# Altium integrated library Capacitors - Ceramic - 01005.IntLib: 571 symbols (part 2 of 13)
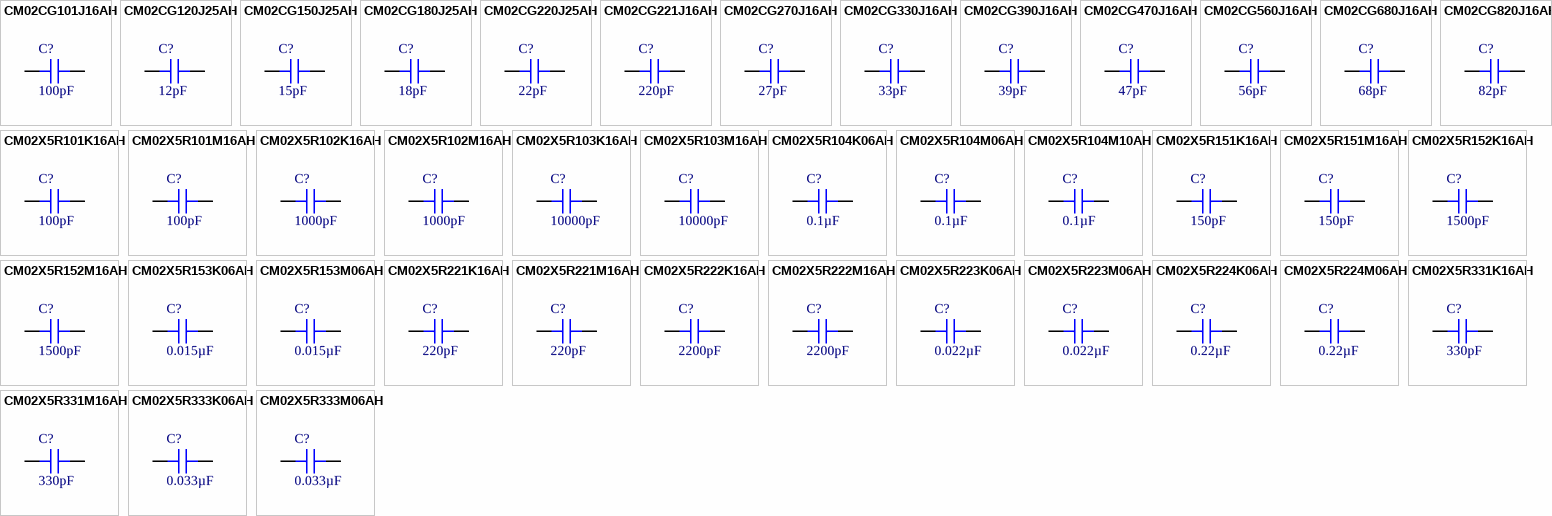
[diagram p15: symbols CM02CG101J16AH to CM02X5R333M06AH]

## CM02CG390J16AH
designator C?, comment 39pF
CAP CER 39PF 16V C0G/NP0 01005; Part Number: CM02CG390J16AH; Manufacturer: Kyocera International Inc. Electronic Components; Temperature Coefficient: C0G, NP0; Tolerance: ±5%; Value: 39pF; Applications: General Purpose; Capacitance: 39pF; ComponentLink1Description: Datasheet; ComponentLink1URL: https://global.kyocera.com/prdct/electro/product/pdf/cm_e.pdf; ComponentLink2Description: DigiKey Link; ComponentLink2URL: http://digikey.com/product-detail/en/kyocera-international-inc-electronic-components/CM02CG390J16AH/1253-CM02CG390J16AHCT-ND/11564097; Device Package: 01005 (0402 Metric); LastUpdated: 9/2/2020 1:27:42 AM; Lifecycle Status: Active; Minimum Order: 1; Mounting Type: Surface Mount, MLCC; Operating Temperature: -55°C ~ 125°C; Package / Case: 01005 (0402 Metric); Packaging: Unknown; Part Status: Active; Price: 0.10; Series: CM; Supplier 1: DigiKey; Supplier Part Number 1: 1253-CM02CG390J16AHCT-ND; Voltage - Rated: 16V
footprint CAP 01005_0402
pins: 1, 2

## CM02CG470J16AH
designator C?, comment 47pF
CAP CER 47PF 16V C0G 01005; Part Number: CM02CG470J16AH; Manufacturer: Kyocera International Inc. Electronic Components; Temperature Coefficient: C0G, NP0; Tolerance: ±5%; Value: 47pF; Applications: General Purpose; Capacitance: 47pF; ComponentLink1Description: Datasheet; ComponentLink1URL: https://global.kyocera.com/prdct/electro/product/pdf/cm_e.pdf; ComponentLink2Description: DigiKey Link; ComponentLink2URL: http://digikey.com/product-detail/en/kyocera-international-inc-electronic-components/CM02CG470J16AH/1253-CM02CG470J16AHDKR-ND/11564327; Device Package: 01005 (0402 Metric); LastUpdated: 9/2/2020 1:27:42 AM; Lifecycle Status: Active; Minimum Order: 1; Mounting Type: Surface Mount, MLCC; Operating Temperature: -55°C ~ 125°C; Package / Case: 01005 (0402 Metric); Packaging: Unknown; Part Status: Active; Price: 0.10; Series: CM; Supplier 1: DigiKey; Supplier Part Number 1: 1253-CM02CG470J16AHDKR-ND; Voltage - Rated: 16V
footprint CAP 01005_0402
pins: 1, 2

## CM02CG560J16AH
designator C?, comment 56pF
CAP CER 56PF 16V C0G/NP0 01005; Part Number: CM02CG560J16AH; Manufacturer: Kyocera International Inc. Electronic Components; Temperature Coefficient: C0G, NP0; Tolerance: ±5%; Value: 56pF; Applications: General Purpose; Capacitance: 56pF; ComponentLink1Description: Datasheet; ComponentLink1URL: https://global.kyocera.com/prdct/electro/product/pdf/cm_e.pdf; ComponentLink2Description: DigiKey Link; ComponentLink2URL: http://digikey.com/product-detail/en/kyocera-international-inc-electronic-components/CM02CG560J16AH/1253-CM02CG560J16AHCT-ND/11564100; Device Package: 01005 (0402 Metric); LastUpdated: 9/2/2020 1:27:42 AM; Lifecycle Status: Active; Minimum Order: 1; Mounting Type: Surface Mount, MLCC; Operating Temperature: -55°C ~ 125°C; Package / Case: 01005 (0402 Metric); Packaging: Unknown; Part Status: Active; Price: 0.10; Series: CM; Supplier 1: DigiKey; Supplier Part Number 1: 1253-CM02CG560J16AHCT-ND; Voltage - Rated: 16V
footprint CAP 01005_0402
pins: 1, 2

## CM02CG680J16AH
designator C?, comment 68pF
CAP CER 68PF 16V C0G/NP0 01005; Part Number: CM02CG680J16AH; Manufacturer: Kyocera International Inc. Electronic Components; Temperature Coefficient: C0G, NP0; Tolerance: ±5%; Value: 68pF; Applications: General Purpose; Capacitance: 68pF; ComponentLink1Description: Datasheet; ComponentLink1URL: https://global.kyocera.com/prdct/electro/product/pdf/cm_e.pdf; ComponentLink2Description: DigiKey Link; ComponentLink2URL: http://digikey.com/product-detail/en/kyocera-international-inc-electronic-components/CM02CG680J16AH/1253-CM02CG680J16AHCT-ND/11564025; Device Package: 01005 (0402 Metric); LastUpdated: 9/2/2020 1:27:41 AM; Lifecycle Status: Active; Minimum Order: 1; Mounting Type: Surface Mount, MLCC; Operating Temperature: -55°C ~ 125°C; Package / Case: 01005 (0402 Metric); Packaging: Unknown; Part Status: Active; Price: 0.10; Series: CM; Supplier 1: DigiKey; Supplier Part Number 1: 1253-CM02CG680J16AHCT-ND; Voltage - Rated: 16V
footprint CAP 01005_0402
pins: 1, 2

## CM02CG820J16AH
designator C?, comment 82pF
CAP CER 82PF 16V C0G/NP0 01005; Part Number: CM02CG820J16AH; Manufacturer: Kyocera International Inc. Electronic Components; Temperature Coefficient: C0G, NP0; Tolerance: ±5%; Value: 82pF; Applications: General Purpose; Capacitance: 82pF; ComponentLink1Description: Datasheet; ComponentLink1URL: https://global.kyocera.com/prdct/electro/product/pdf/cm_e.pdf; ComponentLink2Description: DigiKey Link; ComponentLink2URL: http://digikey.com/product-detail/en/kyocera-international-inc-electronic-components/CM02CG820J16AH/1253-CM02CG820J16AHCT-ND/11564156; Device Package: 01005 (0402 Metric); LastUpdated: 9/2/2020 1:27:42 AM; Lifecycle Status: Active; Minimum Order: 1; Mounting Type: Surface Mount, MLCC; Operating Temperature: -55°C ~ 125°C; Package / Case: 01005 (0402 Metric); Packaging: Unknown; Part Status: Active; Price: 0.10; Series: CM; Supplier 1: DigiKey; Supplier Part Number 1: 1253-CM02CG820J16AHCT-ND; Voltage - Rated: 16V
footprint CAP 01005_0402
pins: 1, 2

## CM02X5R101K16AH
designator C?, comment 100pF
CAP CER 100PF 16V X5R 01005; Part Number: CM02X5R101K16AH; Manufacturer: Kyocera International Inc. Electronic Components; Tolerance: ±10%; Value: 100pF; Applications: General Purpose; Capacitance: 100pF; ComponentLink1Description: Datasheet; ComponentLink1URL: https://global.kyocera.com/prdct/electro/product/pdf/cm_e.pdf; ComponentLink2Description: DigiKey Link; ComponentLink2URL: http://digikey.com/product-detail/en/kyocera-international-inc-electronic-components/CM02X5R101K16AH/1253-CM02X5R101K16AHCT-ND/11564015; Device Package: 01005 (0402 Metric); LastUpdated: 9/2/2020 1:27:42 AM; Lifecycle Status: Active; Minimum Order: 1; Mounting Type: Surface Mount, MLCC; Operating Temperature: -55°C ~ 85°C; Package / Case: 01005 (0402 Metric); Packaging: TapeAndReel; Part Status: Active; Price: 0.01; Series: CM; Supplier 1: DigiKey; Supplier Part Number 1: 1253-CM02X5R101K16AHCT-ND; Temperature Coefficient: X5R; Voltage - Rated: 16V
footprint CAP 01005_0402
pins: 1, 2

## CM02X5R101M16AH
designator C?, comment 100pF
CAP CER 100PF 16V X5R 01005; Part Number: CM02X5R101M16AH; Manufacturer: Kyocera International Inc. Electronic Components; Tolerance: ±20%; Value: 100pF; Applications: General Purpose; Capacitance: 100pF; ComponentLink1Description: Datasheet; ComponentLink1URL: https://global.kyocera.com/prdct/electro/product/pdf/cm_e.pdf; ComponentLink2Description: DigiKey Link; ComponentLink2URL: http://digikey.com/product-detail/en/kyocera-international-inc-electronic-components/CM02X5R101M16AH/1253-CM02X5R101M16AHCT-ND/11564095; Device Package: 01005 (0402 Metric); LastUpdated: 9/2/2020 1:27:42 AM; Lifecycle Status: Active; Minimum Order: 1; Mounting Type: Surface Mount, MLCC; Operating Temperature: -55°C ~ 85°C; Package / Case: 01005 (0402 Metric); Packaging: TapeAndReel; Part Status: Active; Price: 0.01; Series: CM; Supplier 1: DigiKey; Supplier Part Number 1: 1253-CM02X5R101M16AHCT-ND; Temperature Coefficient: X5R; Voltage - Rated: 16V
footprint CAP 01005_0402
pins: 1, 2

## CM02X5R102K16AH
designator C?, comment 1000pF
CAP CER 1000PF 16V X5R 01005; Part Number: CM02X5R102K16AH; Manufacturer: Kyocera International Inc. Electronic Components; Tolerance: ±10%; Value: 1000pF; Applications: General Purpose; Capacitance: 1000pF; ComponentLink1Description: Datasheet; ComponentLink1URL: https://global.kyocera.com/prdct/electro/product/pdf/cm_e.pdf; ComponentLink2Description: DigiKey Link; ComponentLink2URL: http://digikey.com/product-detail/en/kyocera-international-inc-electronic-components/CM02X5R102K16AH/1253-CM02X5R102K16AHCT-ND/11564066; Device Package: 01005 (0402 Metric); LastUpdated: 9/2/2020 1:27:42 AM; Lifecycle Status: Active; Minimum Order: 1; Mounting Type: Surface Mount, MLCC; Operating Temperature: -55°C ~ 85°C; Package / Case: 01005 (0402 Metric); Packaging: TapeAndReel; Part Status: Active; Price: 0.01; Series: CM; Supplier 1: DigiKey; Supplier Part Number 1: 1253-CM02X5R102K16AHCT-ND; Temperature Coefficient: X5R; Voltage - Rated: 16V
footprint CAP 01005_0402
pins: 1, 2

## CM02X5R102M16AH
designator C?, comment 1000pF
CAP CER 1000PF 16V X5R 01005; Part Number: CM02X5R102M16AH; Manufacturer: Kyocera International Inc. Electronic Components; Tolerance: ±20%; Value: 1000pF; Applications: General Purpose; Capacitance: 1000pF; ComponentLink1Description: Datasheet; ComponentLink1URL: https://global.kyocera.com/prdct/electro/product/pdf/cm_e.pdf; ComponentLink2Description: DigiKey Link; ComponentLink2URL: http://digikey.com/product-detail/en/kyocera-international-inc-electronic-components/CM02X5R102M16AH/1253-CM02X5R102M16AHCT-ND/11563990; Device Package: 01005 (0402 Metric); LastUpdated: 9/2/2020 1:27:42 AM; Lifecycle Status: Active; Minimum Order: 1; Mounting Type: Surface Mount, MLCC; Operating Temperature: -55°C ~ 85°C; Package / Case: 01005 (0402 Metric); Packaging: TapeAndReel; Part Status: Active; Price: 0.01; Series: CM; Supplier 1: DigiKey; Supplier Part Number 1: 1253-CM02X5R102M16AHCT-ND; Temperature Coefficient: X5R; Voltage - Rated: 16V
footprint CAP 01005_0402
pins: 1, 2

## CM02X5R103K16AH
designator C?, comment 10000pF
CAP CER 10000PF 16V X5R 01005; Part Number: CM02X5R103K16AH; Manufacturer: Kyocera International Inc. Electronic Components; Tolerance: ±10%; Value: 10000pF; Applications: General Purpose; Capacitance: 10000pF; ComponentLink1Description: Datasheet; ComponentLink1URL: https://global.kyocera.com/prdct/electro/product/pdf/cm_e.pdf; ComponentLink2Description: DigiKey Link; ComponentLink2URL: http://digikey.com/product-detail/en/kyocera-international-inc-electronic-components/CM02X5R103K16AH/1253-CM02X5R103K16AHCT-ND/11563984; Device Package: 01005 (0402 Metric); LastUpdated: 9/2/2020 1:27:42 AM; Lifecycle Status: Active; Minimum Order: 1; Mounting Type: Surface Mount, MLCC; Operating Temperature: -55°C ~ 85°C; Package / Case: 01005 (0402 Metric); Packaging: TapeAndReel; Part Status: Active; Price: 0.01; Series: CM; Supplier 1: DigiKey; Supplier Part Number 1: 1253-CM02X5R103K16AHCT-ND; Temperature Coefficient: X5R; Voltage - Rated: 16V
footprint CAP 01005_0402
pins: 1, 2

## CM02X5R103M16AH
designator C?, comment 10000pF
CAP CER 10000PF 16V X5R 01005; Part Number: CM02X5R103M16AH; Manufacturer: Kyocera International Inc. Electronic Components; Tolerance: ±20%; Value: 10000pF; Applications: General Purpose; Capacitance: 10000pF; ComponentLink1Description: Datasheet; ComponentLink1URL: https://global.kyocera.com/prdct/electro/product/pdf/cm_e.pdf; ComponentLink2Description: DigiKey Link; ComponentLink2URL: http://digikey.com/product-detail/en/kyocera-international-inc-electronic-components/CM02X5R103M16AH/1253-CM02X5R103M16AHCT-ND/11564001; Device Package: 01005 (0402 Metric); LastUpdated: 9/2/2020 1:27:42 AM; Lifecycle Status: Active; Minimum Order: 1; Mounting Type: Surface Mount, MLCC; Operating Temperature: -55°C ~ 85°C; Package / Case: 01005 (0402 Metric); Packaging: TapeAndReel; Part Status: Active; Price: 0.01; Series: CM; Supplier 1: DigiKey; Supplier Part Number 1: 1253-CM02X5R103M16AHCT-ND; Temperature Coefficient: X5R; Voltage - Rated: 16V
footprint CAP 01005_0402
pins: 1, 2

## CM02X5R104K06AH
designator C?, comment 0.1µF
CAP CER 0.1UF 6.3V X5R 01005; Part Number: CM02X5R104K06AH; Manufacturer: Kyocera International Inc. Electronic Components; Tolerance: ±10%; Value: 0.1µF; Applications: General Purpose; Capacitance: 0.1µF; ComponentLink1Description: Datasheet; ComponentLink1URL: https://global.kyocera.com/prdct/electro/product/pdf/cm_e.pdf; ComponentLink2Description: DigiKey Link; ComponentLink2URL: http://digikey.com/product-detail/en/kyocera-international-inc-electronic-components/CM02X5R104K06AH/1253-CM02X5R104K06AHCT-ND/11563993; Device Package: 01005 (0402 Metric); LastUpdated: 9/2/2020 1:27:41 AM; Lifecycle Status: Active; Minimum Order: 1; Mounting Type: Surface Mount, MLCC; Operating Temperature: -55°C ~ 85°C; Package / Case: 01005 (0402 Metric); Packaging: TapeAndReel; Part Status: Active; Price: 0.01; Series: CM; Supplier 1: DigiKey; Supplier Part Number 1: 1253-CM02X5R104K06AHCT-ND; Temperature Coefficient: X5R; Voltage - Rated: 6.3V
footprint CAP 01005_0402
pins: 1, 2

## CM02X5R104M06AH
designator C?, comment 0.1µF
CAP CER 0.1UF 6.3V X5R 01005; Part Number: CM02X5R104M06AH; Manufacturer: Kyocera International Inc. Electronic Components; Tolerance: ±20%; Value: 0.1µF; Applications: General Purpose; Capacitance: 0.1µF; ComponentLink1Description: Datasheet; ComponentLink1URL: https://global.kyocera.com/prdct/electro/product/pdf/cm_e.pdf; ComponentLink2Description: DigiKey Link; ComponentLink2URL: http://digikey.com/product-detail/en/kyocera-international-inc-electronic-components/CM02X5R104M06AH/1253-CM02X5R104M06AHCT-ND/11564094; Device Package: 01005 (0402 Metric); LastUpdated: 9/2/2020 1:27:41 AM; Lifecycle Status: Active; Minimum Order: 1; Mounting Type: Surface Mount, MLCC; Operating Temperature: -55°C ~ 85°C; Package / Case: 01005 (0402 Metric); Packaging: TapeAndReel; Part Status: Active; Price: 0.01; Series: CM; Supplier 1: DigiKey; Supplier Part Number 1: 1253-CM02X5R104M06AHCT-ND; Temperature Coefficient: X5R; Voltage - Rated: 6.3V
footprint CAP 01005_0402
pins: 1, 2

## CM02X5R104M10AH
designator C?, comment 0.1µF
CAP CER 0.1?F 10V X5R 01005; Part Number: CM02X5R104M10AH; Manufacturer: Kyocera International Inc. Electronic Components; Tolerance: ±20%; Value: 0.1µF; Applications: General Purpose; Capacitance: 0.1µF; ComponentLink1Description: Datasheet; ComponentLink1URL: https://global.kyocera.com/prdct/electro/product/pdf/cm_e.pdf; ComponentLink2Description: DigiKey Link; ComponentLink2URL: http://digikey.com/product-detail/en/kyocera-international-inc-electronic-components/CM02X5R104M10AH/1253-CM02X5R104M10AHCT-ND/11564016; Device Package: 01005 (0402 Metric); LastUpdated: 9/2/2020 1:27:42 AM; Lifecycle Status: Active; Minimum Order: 1; Mounting Type: Surface Mount, MLCC; Operating Temperature: -55°C ~ 85°C; Package / Case: 01005 (0402 Metric); Packaging: TapeAndReel; Part Status: Active; Price: 0.02; Series: CM; Supplier 1: DigiKey; Supplier Part Number 1: 1253-CM02X5R104M10AHCT-ND; Temperature Coefficient: X5R; Voltage - Rated: 10V
footprint CAP 01005_0402
pins: 1, 2

## CM02X5R151K16AH
designator C?, comment 150pF
CAP CER 150PF 16V X5R 01005; Part Number: CM02X5R151K16AH; Manufacturer: Kyocera International Inc. Electronic Components; Tolerance: ±10%; Value: 150pF; Applications: General Purpose; Capacitance: 150pF; ComponentLink1Description: Datasheet; ComponentLink1URL: https://global.kyocera.com/prdct/electro/product/pdf/cm_e.pdf; ComponentLink2Description: DigiKey Link; ComponentLink2URL: http://digikey.com/product-detail/en/kyocera-international-inc-electronic-components/CM02X5R151K16AH/1253-CM02X5R151K16AHCT-ND/11564033; Device Package: 01005 (0402 Metric); LastUpdated: 9/2/2020 1:27:42 AM; Lifecycle Status: Active; Minimum Order: 1; Mounting Type: Surface Mount, MLCC; Operating Temperature: -55°C ~ 85°C; Package / Case: 01005 (0402 Metric); Packaging: TapeAndReel; Part Status: Active; Price: 0.01; Series: CM; Supplier 1: DigiKey; Supplier Part Number 1: 1253-CM02X5R151K16AHCT-ND; Temperature Coefficient: X5R; Voltage - Rated: 16V
footprint CAP 01005_0402
pins: 1, 2

## CM02X5R151M16AH
designator C?, comment 150pF
CAP CER 150PF 16V X5R 01005; Part Number: CM02X5R151M16AH; Manufacturer: Kyocera International Inc. Electronic Components; Tolerance: ±20%; Value: 150pF; Applications: General Purpose; Capacitance: 150pF; ComponentLink1Description: Datasheet; ComponentLink1URL: https://global.kyocera.com/prdct/electro/product/pdf/cm_e.pdf; ComponentLink2Description: DigiKey Link; ComponentLink2URL: http://digikey.com/product-detail/en/kyocera-international-inc-electronic-components/CM02X5R151M16AH/1253-CM02X5R151M16AHCT-ND/11563981; Device Package: 01005 (0402 Metric); LastUpdated: 9/2/2020 1:27:42 AM; Lifecycle Status: Active; Minimum Order: 1; Mounting Type: Surface Mount, MLCC; Operating Temperature: -55°C ~ 85°C; Package / Case: 01005 (0402 Metric); Packaging: TapeAndReel; Part Status: Active; Price: 0.01; Series: CM; Supplier 1: DigiKey; Supplier Part Number 1: 1253-CM02X5R151M16AHCT-ND; Temperature Coefficient: X5R; Voltage - Rated: 16V
footprint CAP 01005_0402
pins: 1, 2

## CM02X5R152K16AH
designator C?, comment 1500pF
CAP CER 1500PF 16V X5R 01005; Part Number: CM02X5R152K16AH; Manufacturer: Kyocera International Inc. Electronic Components; Tolerance: ±10%; Value: 1500pF; Applications: General Purpose; Capacitance: 1500pF; ComponentLink1Description: Datasheet; ComponentLink1URL: https://global.kyocera.com/prdct/electro/product/pdf/cm_e.pdf; ComponentLink2Description: DigiKey Link; ComponentLink2URL: http://digikey.com/product-detail/en/kyocera-international-inc-electronic-components/CM02X5R152K16AH/1253-CM02X5R152K16AHCT-ND/11564058; Device Package: 01005 (0402 Metric); LastUpdated: 9/2/2020 1:27:42 AM; Lifecycle Status: Active; Minimum Order: 1; Mounting Type: Surface Mount, MLCC; Operating Temperature: -55°C ~ 85°C; Package / Case: 01005 (0402 Metric); Packaging: TapeAndReel; Part Status: Active; Price: 0.01; Series: CM; Supplier 1: DigiKey; Supplier Part Number 1: 1253-CM02X5R152K16AHCT-ND; Temperature Coefficient: X5R; Voltage - Rated: 16V
footprint CAP 01005_0402
pins: 1, 2

## CM02X5R152M16AH
designator C?, comment 1500pF
CAP CER 1500PF 16V X5R 01005; Part Number: CM02X5R152M16AH; Manufacturer: Kyocera International Inc. Electronic Components; Tolerance: ±20%; Value: 1500pF; Applications: General Purpose; Capacitance: 1500pF; ComponentLink1Description: Datasheet; ComponentLink1URL: https://global.kyocera.com/prdct/electro/product/pdf/cm_e.pdf; ComponentLink2Description: DigiKey Link; ComponentLink2URL: http://digikey.com/product-detail/en/kyocera-international-inc-electronic-components/CM02X5R152M16AH/1253-CM02X5R152M16AHCT-ND/11564153; Device Package: 01005 (0402 Metric); LastUpdated: 9/2/2020 1:27:41 AM; Lifecycle Status: Active; Minimum Order: 1; Mounting Type: Surface Mount, MLCC; Operating Temperature: -55°C ~ 85°C; Package / Case: 01005 (0402 Metric); Packaging: TapeAndReel; Part Status: Active; Price: 0.01; Series: CM; Supplier 1: DigiKey; Supplier Part Number 1: 1253-CM02X5R152M16AHCT-ND; Temperature Coefficient: X5R; Voltage - Rated: 16V
footprint CAP 01005_0402
pins: 1, 2

## CM02X5R153K06AH
designator C?, comment 0.015µF
CAP CER 0.015UF 6.3V X5R 01005; Part Number: CM02X5R153K06AH; Manufacturer: Kyocera International Inc. Electronic Components; Tolerance: ±10%; Value: 0.015µF; Applications: General Purpose; Capacitance: 0.015µF; ComponentLink1Description: Datasheet; ComponentLink1URL: https://global.kyocera.com/prdct/electro/product/pdf/cm_e.pdf; ComponentLink2Description: DigiKey Link; ComponentLink2URL: http://digikey.com/product-detail/en/kyocera-international-inc-electronic-components/CM02X5R153K06AH/1253-CM02X5R153K06AHCT-ND/11564162; Device Package: 01005 (0402 Metric); LastUpdated: 9/2/2020 1:27:41 AM; Lifecycle Status: Active; Minimum Order: 1; Mounting Type: Surface Mount, MLCC; Operating Temperature: -55°C ~ 85°C; Package / Case: 01005 (0402 Metric); Packaging: TapeAndReel; Part Status: Active; Price: 0.01; Series: CM; Supplier 1: DigiKey; Supplier Part Number 1: 1253-CM02X5R153K06AHCT-ND; Temperature Coefficient: X5R; Voltage - Rated: 6.3V
footprint CAP 01005_0402
pins: 1, 2

## CM02X5R153M06AH
designator C?, comment 0.015µF
CAP CER 0.015UF 6.3V X5R 01005; Part Number: CM02X5R153M06AH; Manufacturer: Kyocera International Inc. Electronic Components; Tolerance: ±20%; Value: 0.015µF; Applications: General Purpose; Capacitance: 0.015µF; ComponentLink1Description: Datasheet; ComponentLink1URL: https://global.kyocera.com/prdct/electro/product/pdf/cm_e.pdf; ComponentLink2Description: DigiKey Link; ComponentLink2URL: http://digikey.com/product-detail/en/kyocera-international-inc-electronic-components/CM02X5R153M06AH/1253-CM02X5R153M06AHCT-ND/11564133; Device Package: 01005 (0402 Metric); LastUpdated: 9/2/2020 1:27:41 AM; Lifecycle Status: Active; Minimum Order: 1; Mounting Type: Surface Mount, MLCC; Operating Temperature: -55°C ~ 85°C; Package / Case: 01005 (0402 Metric); Packaging: TapeAndReel; Part Status: Active; Price: 0.01; Series: CM; Supplier 1: DigiKey; Supplier Part Number 1: 1253-CM02X5R153M06AHCT-ND; Temperature Coefficient: X5R; Voltage - Rated: 6.3V
footprint CAP 01005_0402
pins: 1, 2

## CM02X5R221K16AH
designator C?, comment 220pF
CAP CER 220PF 16V X5R 01005; Part Number: CM02X5R221K16AH; Manufacturer: Kyocera International Inc. Electronic Components; Tolerance: ±10%; Value: 220pF; Applications: General Purpose; Capacitance: 220pF; ComponentLink1Description: Datasheet; ComponentLink1URL: https://global.kyocera.com/prdct/electro/product/pdf/cm_e.pdf; ComponentLink2Description: DigiKey Link; ComponentLink2URL: http://digikey.com/product-detail/en/kyocera-international-inc-electronic-components/CM02X5R221K16AH/1253-CM02X5R221K16AHCT-ND/11564046; Device Package: 01005 (0402 Metric); LastUpdated: 9/2/2020 1:27:42 AM; Lifecycle Status: Active; Minimum Order: 1; Mounting Type: Surface Mount, MLCC; Operating Temperature: -55°C ~ 85°C; Package / Case: 01005 (0402 Metric); Packaging: TapeAndReel; Part Status: Active; Price: 0.01; Series: CM; Supplier 1: DigiKey; Supplier Part Number 1: 1253-CM02X5R221K16AHCT-ND; Temperature Coefficient: X5R; Voltage - Rated: 16V
footprint CAP 01005_0402
pins: 1, 2

## CM02X5R221M16AH
designator C?, comment 220pF
CAP CER 220PF 16V X5R 01005; Part Number: CM02X5R221M16AH; Manufacturer: Kyocera International Inc. Electronic Components; Tolerance: ±20%; Value: 220pF; Applications: General Purpose; Capacitance: 220pF; ComponentLink1Description: Datasheet; ComponentLink1URL: https://global.kyocera.com/prdct/electro/product/pdf/cm_e.pdf; ComponentLink2Description: DigiKey Link; ComponentLink2URL: http://digikey.com/product-detail/en/kyocera-international-inc-electronic-components/CM02X5R221M16AH/1253-CM02X5R221M16AHCT-ND/11564106; Device Package: 01005 (0402 Metric); LastUpdated: 9/2/2020 1:27:42 AM; Lifecycle Status: Active; Minimum Order: 1; Mounting Type: Surface Mount, MLCC; Operating Temperature: -55°C ~ 85°C; Package / Case: 01005 (0402 Metric); Packaging: TapeAndReel; Part Status: Active; Price: 0.01; Series: CM; Supplier 1: DigiKey; Supplier Part Number 1: 1253-CM02X5R221M16AHCT-ND; Temperature Coefficient: X5R; Voltage - Rated: 16V
footprint CAP 01005_0402
pins: 1, 2

## CM02X5R222K16AH
designator C?, comment 2200pF
CAP CER 2200PF 16V X5R 01005; Part Number: CM02X5R222K16AH; Manufacturer: Kyocera International Inc. Electronic Components; Tolerance: ±10%; Value: 2200pF; Applications: General Purpose; Capacitance: 2200pF; ComponentLink1Description: Datasheet; ComponentLink1URL: https://global.kyocera.com/prdct/electro/product/pdf/cm_e.pdf; ComponentLink2Description: DigiKey Link; ComponentLink2URL: http://digikey.com/product-detail/en/kyocera-international-inc-electronic-components/CM02X5R222K16AH/1253-CM02X5R222K16AHCT-ND/11564119; Device Package: 01005 (0402 Metric); LastUpdated: 9/2/2020 1:27:42 AM; Lifecycle Status: Active; Minimum Order: 1; Mounting Type: Surface Mount, MLCC; Operating Temperature: -55°C ~ 85°C; Package / Case: 01005 (0402 Metric); Packaging: TapeAndReel; Part Status: Active; Price: 0.01; Series: CM; Supplier 1: DigiKey; Supplier Part Number 1: 1253-CM02X5R222K16AHCT-ND; Temperature Coefficient: X5R; Voltage - Rated: 16V
footprint CAP 01005_0402
pins: 1, 2

## CM02X5R222M16AH
designator C?, comment 2200pF
CAP CER 2200PF 16V X5R 01005; Part Number: CM02X5R222M16AH; Manufacturer: Kyocera International Inc. Electronic Components; Tolerance: ±20%; Value: 2200pF; Applications: General Purpose; Capacitance: 2200pF; ComponentLink1Description: Datasheet; ComponentLink1URL: https://global.kyocera.com/prdct/electro/product/pdf/cm_e.pdf; ComponentLink2Description: DigiKey Link; ComponentLink2URL: http://digikey.com/product-detail/en/kyocera-international-inc-electronic-components/CM02X5R222M16AH/1253-CM02X5R222M16AHCT-ND/11564140; Device Package: 01005 (0402 Metric); LastUpdated: 9/2/2020 1:27:41 AM; Lifecycle Status: Active; Minimum Order: 1; Mounting Type: Surface Mount, MLCC; Operating Temperature: -55°C ~ 85°C; Package / Case: 01005 (0402 Metric); Packaging: TapeAndReel; Part Status: Active; Price: 0.01; Series: CM; Supplier 1: DigiKey; Supplier Part Number 1: 1253-CM02X5R222M16AHCT-ND; Temperature Coefficient: X5R; Voltage - Rated: 16V
footprint CAP 01005_0402
pins: 1, 2

## CM02X5R223K06AH
designator C?, comment 0.022µF
CAP CER 0.022UF 6.3V X5R 01005; Part Number: CM02X5R223K06AH; Manufacturer: Kyocera International Inc. Electronic Components; Tolerance: ±10%; Value: 0.022µF; Applications: General Purpose; Capacitance: 0.022µF; ComponentLink1Description: Datasheet; ComponentLink1URL: https://global.kyocera.com/prdct/electro/product/pdf/cm_e.pdf; ComponentLink2Description: DigiKey Link; ComponentLink2URL: http://digikey.com/product-detail/en/kyocera-international-inc-electronic-components/CM02X5R223K06AH/1253-CM02X5R223K06AHCT-ND/11564132; Device Package: 01005 (0402 Metric); LastUpdated: 9/2/2020 1:27:42 AM; Lifecycle Status: Active; Minimum Order: 1; Mounting Type: Surface Mount, MLCC; Operating Temperature: -55°C ~ 85°C; Package / Case: 01005 (0402 Metric); Packaging: TapeAndReel; Part Status: Active; Price: 0.01; Series: CM; Supplier 1: DigiKey; Supplier Part Number 1: 1253-CM02X5R223K06AHCT-ND; Temperature Coefficient: X5R; Voltage - Rated: 6.3V
footprint CAP 01005_0402
pins: 1, 2

## CM02X5R223M06AH
designator C?, comment 0.022µF
CAP CER 0.022UF 6.3V X5R 01005; Part Number: CM02X5R223M06AH; Manufacturer: Kyocera International Inc. Electronic Components; Tolerance: ±20%; Value: 0.022µF; Applications: General Purpose; Capacitance: 0.022µF; ComponentLink1Description: Datasheet; ComponentLink1URL: https://global.kyocera.com/prdct/electro/product/pdf/cm_e.pdf; ComponentLink2Description: DigiKey Link; ComponentLink2URL: http://digikey.com/product-detail/en/kyocera-international-inc-electronic-components/CM02X5R223M06AH/1253-CM02X5R223M06AHCT-ND/11564074; Device Package: 01005 (0402 Metric); LastUpdated: 9/2/2020 1:27:42 AM; Lifecycle Status: Active; Minimum Order: 1; Mounting Type: Surface Mount, MLCC; Operating Temperature: -55°C ~ 85°C; Package / Case: 01005 (0402 Metric); Packaging: TapeAndReel; Part Status: Active; Price: 0.01; Series: CM; Supplier 1: DigiKey; Supplier Part Number 1: 1253-CM02X5R223M06AHCT-ND; Temperature Coefficient: X5R; Voltage - Rated: 6.3V
footprint CAP 01005_0402
pins: 1, 2

## CM02X5R224K06AH
designator C?, comment 0.22µF
CAP CER 0.22UF 6.3V X5R 01005; Part Number: CM02X5R224K06AH; Manufacturer: Kyocera International Inc. Electronic Components; Tolerance: ±10%; Value: 0.22µF; Applications: General Purpose; Capacitance: 0.22µF; ComponentLink1Description: Datasheet; ComponentLink1URL: https://global.kyocera.com/prdct/electro/product/pdf/cm_e.pdf; ComponentLink2Description: DigiKey Link; ComponentLink2URL: http://digikey.com/product-detail/en/kyocera-international-inc-electronic-components/CM02X5R224K06AH/1253-CM02X5R224K06AHCT-ND/11564107; Device Package: 01005 (0402 Metric); LastUpdated: 9/2/2020 1:27:42 AM; Lifecycle Status: Active; Minimum Order: 1; Mounting Type: Surface Mount, MLCC; Operating Temperature: -55°C ~ 85°C; Package / Case: 01005 (0402 Metric); Packaging: TapeAndReel; Part Status: Active; Price: 0.01; Series: CM; Supplier 1: DigiKey; Supplier Part Number 1: 1253-CM02X5R224K06AHCT-ND; Temperature Coefficient: X5R; Voltage - Rated: 6.3V
footprint CAP 01005_0402
pins: 1, 2

## CM02X5R224M06AH
designator C?, comment 0.22µF
CAP CER 0.22UF 6.3V X5R 01005; Part Number: CM02X5R224M06AH; Manufacturer: Kyocera International Inc. Electronic Components; Tolerance: ±20%; Value: 0.22µF; Applications: General Purpose; Capacitance: 0.22µF; ComponentLink1Description: Datasheet; ComponentLink1URL: https://global.kyocera.com/prdct/electro/product/pdf/cm_e.pdf; ComponentLink2Description: DigiKey Link; ComponentLink2URL: http://digikey.com/product-detail/en/kyocera-international-inc-electronic-components/CM02X5R224M06AH/1253-CM02X5R224M06AHCT-ND/11563989; Device Package: 01005 (0402 Metric); LastUpdated: 9/2/2020 1:27:42 AM; Lifecycle Status: Active; Minimum Order: 1; Mounting Type: Surface Mount, MLCC; Operating Temperature: -55°C ~ 85°C; Package / Case: 01005 (0402 Metric); Packaging: TapeAndReel; Part Status: Active; Price: 0.01; Series: CM; Supplier 1: DigiKey; Supplier Part Number 1: 1253-CM02X5R224M06AHCT-ND; Temperature Coefficient: X5R; Voltage - Rated: 6.3V
footprint CAP 01005_0402
pins: 1, 2

## CM02X5R331K16AH
designator C?, comment 330pF
CAP CER 330PF 16V X5R 01005; Part Number: CM02X5R331K16AH; Manufacturer: Kyocera International Inc. Electronic Components; Tolerance: ±10%; Value: 330pF; Applications: General Purpose; Capacitance: 330pF; ComponentLink1Description: Datasheet; ComponentLink1URL: https://global.kyocera.com/prdct/electro/product/pdf/cm_e.pdf; ComponentLink2Description: DigiKey Link; ComponentLink2URL: http://digikey.com/product-detail/en/kyocera-international-inc-electronic-components/CM02X5R331K16AH/1253-CM02X5R331K16AHCT-ND/11563986; Device Package: 01005 (0402 Metric); LastUpdated: 9/2/2020 1:27:42 AM; Lifecycle Status: Active; Minimum Order: 1; Mounting Type: Surface Mount, MLCC; Operating Temperature: -55°C ~ 85°C; Package / Case: 01005 (0402 Metric); Packaging: TapeAndReel; Part Status: Active; Price: 0.01; Series: CM; Supplier 1: DigiKey; Supplier Part Number 1: 1253-CM02X5R331K16AHCT-ND; Temperature Coefficient: X5R; Voltage - Rated: 16V
footprint CAP 01005_0402
pins: 1, 2

## CM02X5R331M16AH
designator C?, comment 330pF
CAP CER 330PF 16V X5R 01005; Part Number: CM02X5R331M16AH; Manufacturer: Kyocera International Inc. Electronic Components; Tolerance: ±20%; Value: 330pF; Applications: General Purpose; Capacitance: 330pF; ComponentLink1Description: Datasheet; ComponentLink1URL: https://global.kyocera.com/prdct/electro/product/pdf/cm_e.pdf; ComponentLink2Description: DigiKey Link; ComponentLink2URL: http://digikey.com/product-detail/en/kyocera-international-inc-electronic-components/CM02X5R331M16AH/1253-CM02X5R331M16AHCT-ND/11564127; Device Package: 01005 (0402 Metric); LastUpdated: 9/2/2020 1:27:42 AM; Lifecycle Status: Active; Minimum Order: 1; Mounting Type: Surface Mount, MLCC; Operating Temperature: -55°C ~ 85°C; Package / Case: 01005 (0402 Metric); Packaging: TapeAndReel; Part Status: Active; Price: 0.01; Series: CM; Supplier 1: DigiKey; Supplier Part Number 1: 1253-CM02X5R331M16AHCT-ND; Temperature Coefficient: X5R; Voltage - Rated: 16V
footprint CAP 01005_0402
pins: 1, 2

## CM02X5R333K06AH
designator C?, comment 0.033µF
CAP CER 0.033UF 6.3V X5R 01005; Part Number: CM02X5R333K06AH; Manufacturer: Kyocera International Inc. Electronic Components; Tolerance: ±10%; Value: 0.033µF; Applications: General Purpose; Capacitance: 0.033µF; ComponentLink1Description: Datasheet; ComponentLink1URL: https://global.kyocera.com/prdct/electro/product/pdf/cm_e.pdf; ComponentLink2Description: DigiKey Link; ComponentLink2URL: http://digikey.com/product-detail/en/kyocera-international-inc-electronic-components/CM02X5R333K06AH/1253-CM02X5R333K06AHCT-ND/11564145; Device Package: 01005 (0402 Metric); LastUpdated: 9/2/2020 1:27:41 AM; Lifecycle Status: Active; Minimum Order: 1; Mounting Type: Surface Mount, MLCC; Operating Temperature: -55°C ~ 85°C; Package / Case: 01005 (0402 Metric); Packaging: TapeAndReel; Part Status: Active; Price: 0.01; Series: CM; Supplier 1: DigiKey; Supplier Part Number 1: 1253-CM02X5R333K06AHCT-ND; Temperature Coefficient: X5R; Voltage - Rated: 6.3V
footprint CAP 01005_0402
pins: 1, 2

## CM02X5R333M06AH
designator C?, comment 0.033µF
CAP CER 0.033UF 6.3V X5R 01005; Part Number: CM02X5R333M06AH; Manufacturer: Kyocera International Inc. Electronic Components; Tolerance: ±20%; Value: 0.033µF; Applications: General Purpose; Capacitance: 0.033µF; ComponentLink1Description: Datasheet; ComponentLink1URL: https://global.kyocera.com/prdct/electro/product/pdf/cm_e.pdf; ComponentLink2Description: DigiKey Link; ComponentLink2URL: http://digikey.com/product-detail/en/kyocera-international-inc-electronic-components/CM02X5R333M06AH/1253-CM02X5R333M06AHCT-ND/11564105; Device Package: 01005 (0402 Metric); LastUpdated: 9/2/2020 1:27:42 AM; Lifecycle Status: Active; Minimum Order: 1; Mounting Type: Surface Mount, MLCC; Operating Temperature: -55°C ~ 85°C; Package / Case: 01005 (0402 Metric); Packaging: TapeAndReel; Part Status: Active; Price: 0.01; Series: CM; Supplier 1: DigiKey; Supplier Part Number 1: 1253-CM02X5R333M06AHCT-ND; Temperature Coefficient: X5R; Voltage - Rated: 6.3V
footprint CAP 01005_0402
pins: 1, 2

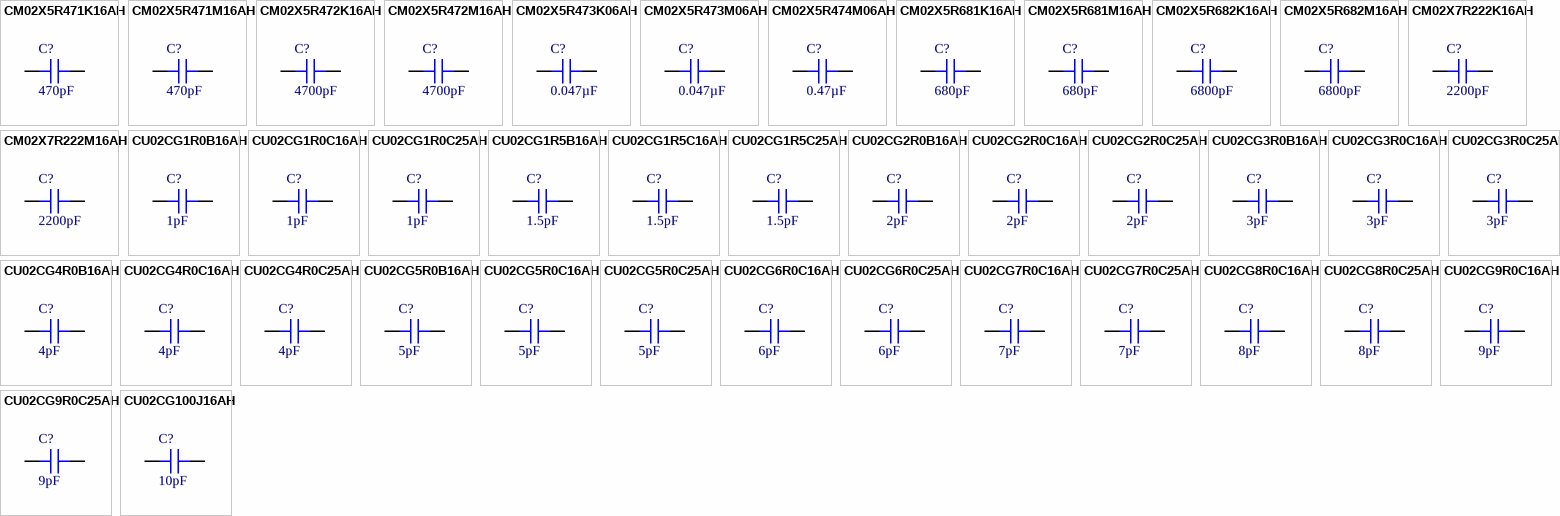
[diagram p2: symbols CM02X5R471K16AH to CU02CG100J16AH]

## CM02X5R471K16AH
designator C?, comment 470pF
CAP CER 470PF 16V X5R 01005; Part Number: CM02X5R471K16AH; Manufacturer: Kyocera International Inc. Electronic Components; Tolerance: ±10%; Value: 470pF; Applications: General Purpose; Capacitance: 470pF; ComponentLink1Description: Datasheet; ComponentLink1URL: https://global.kyocera.com/prdct/electro/product/pdf/cm_e.pdf; ComponentLink2Description: DigiKey Link; ComponentLink2URL: http://digikey.com/product-detail/en/kyocera-international-inc-electronic-components/CM02X5R471K16AH/1253-CM02X5R471K16AHCT-ND/11564053; Device Package: 01005 (0402 Metric); LastUpdated: 9/2/2020 1:27:42 AM; Lifecycle Status: Active; Minimum Order: 1; Mounting Type: Surface Mount, MLCC; Operating Temperature: -55°C ~ 85°C; Package / Case: 01005 (0402 Metric); Packaging: TapeAndReel; Part Status: Active; Price: 0.01; Series: CM; Supplier 1: DigiKey; Supplier Part Number 1: 1253-CM02X5R471K16AHCT-ND; Temperature Coefficient: X5R; Voltage - Rated: 16V
footprint CAP 01005_0402
pins: 1, 2

## CM02X5R471M16AH
designator C?, comment 470pF
CAP CER 470PF 16V X5R 01005; Part Number: CM02X5R471M16AH; Manufacturer: Kyocera International Inc. Electronic Components; Tolerance: ±20%; Value: 470pF; Applications: General Purpose; Capacitance: 470pF; ComponentLink1Description: Datasheet; ComponentLink1URL: https://global.kyocera.com/prdct/electro/product/pdf/cm_e.pdf; ComponentLink2Description: DigiKey Link; ComponentLink2URL: http://digikey.com/product-detail/en/kyocera-international-inc-electronic-components/CM02X5R471M16AH/1253-CM02X5R471M16AHCT-ND/11564031; Device Package: 01005 (0402 Metric); LastUpdated: 9/2/2020 1:27:42 AM; Lifecycle Status: Active; Minimum Order: 1; Mounting Type: Surface Mount, MLCC; Operating Temperature: -55°C ~ 85°C; Package / Case: 01005 (0402 Metric); Packaging: TapeAndReel; Part Status: Active; Price: 0.01; Series: CM; Supplier 1: DigiKey; Supplier Part Number 1: 1253-CM02X5R471M16AHCT-ND; Temperature Coefficient: X5R; Voltage - Rated: 16V
footprint CAP 01005_0402
pins: 1, 2

## CM02X5R472K16AH
designator C?, comment 4700pF
CAP CER 4700PF 16V X5R 01005; Part Number: CM02X5R472K16AH; Manufacturer: Kyocera International Inc. Electronic Components; Tolerance: ±10%; Value: 4700pF; Applications: General Purpose; Capacitance: 4700pF; ComponentLink1Description: Datasheet; ComponentLink1URL: https://global.kyocera.com/prdct/electro/product/pdf/cm_e.pdf; ComponentLink2Description: DigiKey Link; ComponentLink2URL: http://digikey.com/product-detail/en/kyocera-international-inc-electronic-components/CM02X5R472K16AH/1253-CM02X5R472K16AHCT-ND/11564158; Device Package: 01005 (0402 Metric); LastUpdated: 9/2/2020 1:27:41 AM; Lifecycle Status: Active; Minimum Order: 1; Mounting Type: Surface Mount, MLCC; Operating Temperature: -55°C ~ 85°C; Package / Case: 01005 (0402 Metric); Packaging: TapeAndReel; Part Status: Active; Price: 0.01; Series: CM; Supplier 1: DigiKey; Supplier Part Number 1: 1253-CM02X5R472K16AHCT-ND; Temperature Coefficient: X5R; Voltage - Rated: 16V
footprint CAP 01005_0402
pins: 1, 2

## CM02X5R472M16AH
designator C?, comment 4700pF
CAP CER 4700PF 16V X5R 01005; Part Number: CM02X5R472M16AH; Manufacturer: Kyocera International Inc. Electronic Components; Tolerance: ±20%; Value: 4700pF; Applications: General Purpose; Capacitance: 4700pF; ComponentLink1Description: Datasheet; ComponentLink1URL: https://global.kyocera.com/prdct/electro/product/pdf/cm_e.pdf; ComponentLink2Description: DigiKey Link; ComponentLink2URL: http://digikey.com/product-detail/en/kyocera-international-inc-electronic-components/CM02X5R472M16AH/1253-CM02X5R472M16AHCT-ND/11564099; Device Package: 01005 (0402 Metric); LastUpdated: 9/2/2020 1:27:42 AM; Lifecycle Status: Active; Minimum Order: 1; Mounting Type: Surface Mount, MLCC; Operating Temperature: -55°C ~ 85°C; Package / Case: 01005 (0402 Metric); Packaging: TapeAndReel; Part Status: Active; Price: 0.01; Series: CM; Supplier 1: DigiKey; Supplier Part Number 1: 1253-CM02X5R472M16AHCT-ND; Temperature Coefficient: X5R; Voltage - Rated: 16V
footprint CAP 01005_0402
pins: 1, 2

## CM02X5R473K06AH
designator C?, comment 0.047µF
CAP CER 0.047UF 6.3V X5R 01005; Part Number: CM02X5R473K06AH; Manufacturer: Kyocera International Inc. Electronic Components; Tolerance: ±10%; Value: 0.047µF; Applications: General Purpose; Capacitance: 0.047µF; ComponentLink1Description: Datasheet; ComponentLink1URL: https://global.kyocera.com/prdct/electro/product/pdf/cm_e.pdf; ComponentLink2Description: DigiKey Link; ComponentLink2URL: http://digikey.com/product-detail/en/kyocera-international-inc-electronic-components/CM02X5R473K06AH/1253-CM02X5R473K06AHCT-ND/11564059; Device Package: 01005 (0402 Metric); LastUpdated: 9/2/2020 1:27:42 AM; Lifecycle Status: Active; Minimum Order: 1; Mounting Type: Surface Mount, MLCC; Operating Temperature: -55°C ~ 85°C; Package / Case: 01005 (0402 Metric); Packaging: TapeAndReel; Part Status: Active; Price: 0.01; Series: CM; Supplier 1: DigiKey; Supplier Part Number 1: 1253-CM02X5R473K06AHCT-ND; Temperature Coefficient: X5R; Voltage - Rated: 6.3V
footprint CAP 01005_0402
pins: 1, 2

## CM02X5R473M06AH
designator C?, comment 0.047µF
CAP CER 0.047UF 6.3V X5R 01005; Part Number: CM02X5R473M06AH; Manufacturer: Kyocera International Inc. Electronic Components; Tolerance: ±20%; Value: 0.047µF; Applications: General Purpose; Capacitance: 0.047µF; ComponentLink1Description: Datasheet; ComponentLink1URL: https://global.kyocera.com/prdct/electro/product/pdf/cm_e.pdf; ComponentLink2Description: DigiKey Link; ComponentLink2URL: http://digikey.com/product-detail/en/kyocera-international-inc-electronic-components/CM02X5R473M06AH/1253-CM02X5R473M06AHCT-ND/11564005; Device Package: 01005 (0402 Metric); LastUpdated: 9/2/2020 1:27:42 AM; Lifecycle Status: Active; Minimum Order: 1; Mounting Type: Surface Mount, MLCC; Operating Temperature: -55°C ~ 85°C; Package / Case: 01005 (0402 Metric); Packaging: TapeAndReel; Part Status: Active; Price: 0.01; Series: CM; Supplier 1: DigiKey; Supplier Part Number 1: 1253-CM02X5R473M06AHCT-ND; Temperature Coefficient: X5R; Voltage - Rated: 6.3V
footprint CAP 01005_0402
pins: 1, 2

## CM02X5R474M06AH
designator C?, comment 0.47µF
CAP CER 0.47?F 6.3V X5R 01005; Part Number: CM02X5R474M06AH; Manufacturer: Kyocera International Inc. Electronic Components; Tolerance: ±20%; Value: 0.47µF; Applications: General Purpose; Capacitance: 0.47µF; ComponentLink1Description: Datasheet; ComponentLink1URL: https://global.kyocera.com/prdct/electro/product/pdf/cm_e.pdf; ComponentLink2Description: DigiKey Link; ComponentLink2URL: http://digikey.com/product-detail/en/kyocera-international-inc-electronic-components/CM02X5R474M06AH/1253-CM02X5R474M06AHCT-ND/11564109; Device Package: 01005 (0402 Metric); LastUpdated: 9/2/2020 1:27:42 AM; Lifecycle Status: Active; Minimum Order: 1; Mounting Type: Surface Mount, MLCC; Operating Temperature: -55°C ~ 85°C; Package / Case: 01005 (0402 Metric); Packaging: TapeAndReel; Part Status: Active; Price: 0.04; Series: CM; Supplier 1: DigiKey; Supplier Part Number 1: 1253-CM02X5R474M06AHCT-ND; Temperature Coefficient: X5R; Voltage - Rated: 6.3V
footprint CAP 01005_0402
pins: 1, 2

## CM02X5R681K16AH
designator C?, comment 680pF
CAP CER 680PF 16V X5R 01005; Part Number: CM02X5R681K16AH; Manufacturer: Kyocera International Inc. Electronic Components; Tolerance: ±10%; Value: 680pF; Applications: General Purpose; Capacitance: 680pF; ComponentLink1Description: Datasheet; ComponentLink1URL: https://global.kyocera.com/prdct/electro/product/pdf/cm_e.pdf; ComponentLink2Description: DigiKey Link; ComponentLink2URL: http://digikey.com/product-detail/en/kyocera-international-inc-electronic-components/CM02X5R681K16AH/1253-CM02X5R681K16AHCT-ND/11563991; Device Package: 01005 (0402 Metric); LastUpdated: 9/2/2020 1:27:42 AM; Lifecycle Status: Active; Minimum Order: 1; Mounting Type: Surface Mount, MLCC; Operating Temperature: -55°C ~ 85°C; Package / Case: 01005 (0402 Metric); Packaging: TapeAndReel; Part Status: Active; Price: 0.01; Series: CM; Supplier 1: DigiKey; Supplier Part Number 1: 1253-CM02X5R681K16AHCT-ND; Temperature Coefficient: X5R; Voltage - Rated: 16V
footprint CAP 01005_0402
pins: 1, 2

## CM02X5R681M16AH
designator C?, comment 680pF
CAP CER 680PF 16V X5R 01005; Part Number: CM02X5R681M16AH; Manufacturer: Kyocera International Inc. Electronic Components; Tolerance: ±20%; Value: 680pF; Applications: General Purpose; Capacitance: 680pF; ComponentLink1Description: Datasheet; ComponentLink1URL: https://global.kyocera.com/prdct/electro/product/pdf/cm_e.pdf; ComponentLink2Description: DigiKey Link; ComponentLink2URL: http://digikey.com/product-detail/en/kyocera-international-inc-electronic-components/CM02X5R681M16AH/1253-CM02X5R681M16AHCT-ND/11563979; Device Package: 01005 (0402 Metric); LastUpdated: 9/2/2020 1:27:42 AM; Lifecycle Status: Active; Minimum Order: 1; Mounting Type: Surface Mount, MLCC; Operating Temperature: -55°C ~ 85°C; Package / Case: 01005 (0402 Metric); Packaging: TapeAndReel; Part Status: Active; Price: 0.01; Series: CM; Supplier 1: DigiKey; Supplier Part Number 1: 1253-CM02X5R681M16AHCT-ND; Temperature Coefficient: X5R; Voltage - Rated: 16V
footprint CAP 01005_0402
pins: 1, 2

## CM02X5R682K16AH
designator C?, comment 6800pF
CAP CER 6800PF 16V X5R 01005; Part Number: CM02X5R682K16AH; Manufacturer: Kyocera International Inc. Electronic Components; Tolerance: ±10%; Value: 6800pF; Applications: General Purpose; Capacitance: 6800pF; ComponentLink1Description: Datasheet; ComponentLink1URL: https://global.kyocera.com/prdct/electro/product/pdf/cm_e.pdf; ComponentLink2Description: DigiKey Link; ComponentLink2URL: http://digikey.com/product-detail/en/kyocera-international-inc-electronic-components/CM02X5R682K16AH/1253-CM02X5R682K16AHCT-ND/11564071; Device Package: 01005 (0402 Metric); LastUpdated: 9/2/2020 1:27:42 AM; Lifecycle Status: Active; Minimum Order: 1; Mounting Type: Surface Mount, MLCC; Operating Temperature: -55°C ~ 85°C; Package / Case: 01005 (0402 Metric); Packaging: TapeAndReel; Part Status: Active; Price: 0.01; Series: CM; Supplier 1: DigiKey; Supplier Part Number 1: 1253-CM02X5R682K16AHCT-ND; Temperature Coefficient: X5R; Voltage - Rated: 16V
footprint CAP 01005_0402
pins: 1, 2

## CM02X5R682M16AH
designator C?, comment 6800pF
CAP CER 6800PF 16V X5R 01005; Part Number: CM02X5R682M16AH; Manufacturer: Kyocera International Inc. Electronic Components; Tolerance: ±20%; Value: 6800pF; Applications: General Purpose; Capacitance: 6800pF; ComponentLink1Description: Datasheet; ComponentLink1URL: https://global.kyocera.com/prdct/electro/product/pdf/cm_e.pdf; ComponentLink2Description: DigiKey Link; ComponentLink2URL: http://digikey.com/product-detail/en/kyocera-international-inc-electronic-components/CM02X5R682M16AH/1253-CM02X5R682M16AHCT-ND/11564049; Device Package: 01005 (0402 Metric); LastUpdated: 9/2/2020 1:27:42 AM; Lifecycle Status: Active; Minimum Order: 1; Mounting Type: Surface Mount, MLCC; Operating Temperature: -55°C ~ 85°C; Package / Case: 01005 (0402 Metric); Packaging: TapeAndReel; Part Status: Active; Price: 0.01; Series: CM; Supplier 1: DigiKey; Supplier Part Number 1: 1253-CM02X5R682M16AHCT-ND; Temperature Coefficient: X5R; Voltage - Rated: 16V
footprint CAP 01005_0402
pins: 1, 2

## CM02X7R222K16AH
designator C?, comment 2200pF
CAP CER 2200PF 16V X7R 01005; Part Number: CM02X7R222K16AH; Manufacturer: Kyocera International Inc. Electronic Components; Tolerance: ±10%; Value: 2200pF; Applications: General Purpose; Capacitance: 2200pF; ComponentLink1Description: Datasheet; ComponentLink1URL: https://global.kyocera.com/prdct/electro/product/pdf/cm_e.pdf; ComponentLink2Description: DigiKey Link; ComponentLink2URL: http://digikey.com/product-detail/en/kyocera-international-inc-electronic-components/CM02X7R222K16AH/1253-CM02X7R222K16AHCT-ND/11564108; Device Package: 01005 (0402 Metric); LastUpdated: 9/2/2020 1:27:42 AM; Lifecycle Status: Active; Minimum Order: 1; Mounting Type: Surface Mount, MLCC; Operating Temperature: -55°C ~ 125°C; Package / Case: 01005 (0402 Metric); Packaging: TapeAndReel; Part Status: Active; Price: 0.01; Series: CM; Supplier 1: DigiKey; Supplier Part Number 1: 1253-CM02X7R222K16AHCT-ND; Temperature Coefficient: X7R; Voltage - Rated: 16V
footprint CAP 01005_0402
pins: 1, 2

## CM02X7R222M16AH
designator C?, comment 2200pF
CAP CER 2200PF 16V X7R 01005; Part Number: CM02X7R222M16AH; Manufacturer: Kyocera International Inc. Electronic Components; Tolerance: ±20%; Value: 2200pF; Applications: General Purpose; Capacitance: 2200pF; ComponentLink1Description: Datasheet; ComponentLink1URL: https://global.kyocera.com/prdct/electro/product/pdf/cm_e.pdf; ComponentLink2Description: DigiKey Link; ComponentLink2URL: http://digikey.com/product-detail/en/kyocera-international-inc-electronic-components/CM02X7R222M16AH/1253-CM02X7R222M16AHCT-ND/11564077; Device Package: 01005 (0402 Metric); LastUpdated: 9/2/2020 1:27:42 AM; Lifecycle Status: Active; Minimum Order: 1; Mounting Type: Surface Mount, MLCC; Operating Temperature: -55°C ~ 125°C; Package / Case: 01005 (0402 Metric); Packaging: TapeAndReel; Part Status: Active; Price: 0.01; Series: CM; Supplier 1: DigiKey; Supplier Part Number 1: 1253-CM02X7R222M16AHCT-ND; Temperature Coefficient: X7R; Voltage - Rated: 16V
footprint CAP 01005_0402
pins: 1, 2

## CU02CG1R0B16AH
designator C?, comment 1pF
CAP CER 1PF 16V C0G 01005; Part Number: CU02CG1R0B16AH; Manufacturer: Kyocera International Inc. Electronic Components; Temperature Coefficient: C0G, NP0; Tolerance: ±0.1pF; Value: 1pF; Applications: RF, Microwave, High Frequency; Capacitance: 1pF; ComponentLink1Description: Datasheet; ComponentLink1URL: https://global.kyocera.com/prdct/electro/product/pdf/cm_e.pdf; ComponentLink2Description: DigiKey Link; ComponentLink2URL: http://digikey.com/product-detail/en/kyocera-international-inc-electronic-components/CU02CG1R0B16AH/1253-CU02CG1R0B16AHCT-ND/11564091; Device Package: 01005 (0402 Metric); Features: High Q, Low Loss; LastUpdated: 9/2/2020 1:27:42 AM; Lifecycle Status: Active; Minimum Order: 1; Mounting Type: Surface Mount, MLCC; Operating Temperature: -55°C ~ 125°C; Package / Case: 01005 (0402 Metric); Packaging: TapeAndReel; Part Status: Active; Price: 0.02; Series: CU; Supplier 1: DigiKey; Supplier Part Number 1: 1253-CU02CG1R0B16AHCT-ND; Voltage - Rated: 16V
footprint CAP 01005_0402
pins: 1, 2

## CU02CG1R0C16AH
designator C?, comment 1pF
CAP CER 1PF 16V C0G 01005; Part Number: CU02CG1R0C16AH; Manufacturer: Kyocera International Inc. Electronic Components; Temperature Coefficient: C0G, NP0; Tolerance: ±0.25pF; Value: 1pF; Applications: RF, Microwave, High Frequency; Capacitance: 1pF; ComponentLink1Description: Datasheet; ComponentLink1URL: https://global.kyocera.com/prdct/electro/product/pdf/cm_e.pdf; ComponentLink2Description: DigiKey Link; ComponentLink2URL: http://digikey.com/product-detail/en/kyocera-international-inc-electronic-components/CU02CG1R0C16AH/1253-CU02CG1R0C16AHCT-ND/11564163; Device Package: 01005 (0402 Metric); Features: High Q, Low Loss; LastUpdated: 9/2/2020 1:27:41 AM; Lifecycle Status: Active; Minimum Order: 1; Mounting Type: Surface Mount, MLCC; Operating Temperature: -55°C ~ 125°C; Package / Case: 01005 (0402 Metric); Packaging: TapeAndReel; Part Status: Active; Price: 0.01; Series: CU; Supplier 1: DigiKey; Supplier Part Number 1: 1253-CU02CG1R0C16AHCT-ND; Voltage - Rated: 16V
footprint CAP 01005_0402
pins: 1, 2

## CU02CG1R0C25AH
designator C?, comment 1pF
CAP CER 1PF 25V C0G 01005; Part Number: CU02CG1R0C25AH; Manufacturer: Kyocera International Inc. Electronic Components; Temperature Coefficient: C0G, NP0; Tolerance: ±0.25pF; Value: 1pF; Applications: RF, Microwave, High Frequency; Capacitance: 1pF; ComponentLink1Description: Datasheet; ComponentLink1URL: https://global.kyocera.com/prdct/electro/product/pdf/cm_e.pdf; ComponentLink2Description: DigiKey Link; ComponentLink2URL: http://digikey.com/product-detail/en/kyocera-international-inc-electronic-components/CU02CG1R0C25AH/1253-CU02CG1R0C25AHCT-ND/11564051; Device Package: 01005 (0402 Metric); Features: High Q, Low Loss; LastUpdated: 9/2/2020 1:27:41 AM; Lifecycle Status: Active; Minimum Order: 1; Mounting Type: Surface Mount, MLCC; Operating Temperature: -55°C ~ 125°C; Package / Case: 01005 (0402 Metric); Packaging: TapeAndReel; Part Status: Active; Price: 0.01; Series: CU; Supplier 1: DigiKey; Supplier Part Number 1: 1253-CU02CG1R0C25AHCT-ND; Voltage - Rated: 25V
footprint CAP 01005_0402
pins: 1, 2